# EAGLE library part IC_TXB0108 (library dp_devices)
8-Bit bidirectional voltage level translator Mfr no: TXB0108PWR TXB0108PWR <http://www.digikey.com/product-detail/en/TXB0108PWR/296-21527-2-ND/1305699>
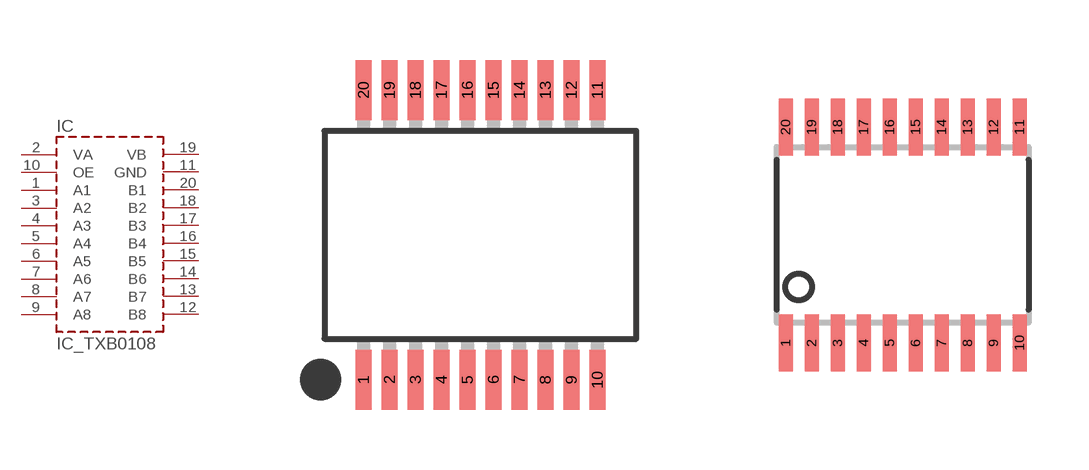
[diagram p63: symbol with the pads of SSOP-20; footprints SSOP-20, TSSOP-20]

Designator prefix IC

## IC_TXB0108PW  [SSOP-20]
1  A1
2  VA
3  A2
4  A3
5  A4
6  A5
7  A6
8  A7
9  A8
10  OE
11  GND
12  B8
13  B7
14  B6
15  B5
16  B4
17  B3
18  B2
19  VB
20  B1

## IC_TXB0108-TSSOP-20  [TSSOP-20]
1  VB
2  A1
3  VA
4  A2
5  A3
6  A4
7  A5
8  A6
9  A7
10  B3
11  B2
12  A8
13  OE
14  GND
15  B8
16  B7
17  B6
18  B5
19  B4
20  B1

## Footprint SSOP-20 (pad centres in mm)
smd 0.4 x 1.5: 1 -2.925,-3.625; 2 -2.275,-3.625; 3 -1.625,-3.625; 4 -0.975,-3.625; 5 -0.325,-3.625; 6 0.325,-3.625; 7 0.975,-3.625; 8 1.625,-3.625; 9 2.275,-3.625; 10 2.925,-3.625; 11 2.925,3.625; 12 2.275,3.625; 13 1.625,3.625; 14 0.975,3.625; 15 0.325,3.625; 16 -0.325,3.625; 17 -0.975,3.625; 18 -1.625,3.625; 19 -2.275,3.625; 20 -2.925,3.625

## Footprint TSSOP-20 (pad centres in mm)
Pad size: 0.35 x 1.43 mm Pad pitch: 0.65 mm Pad lateral pitch: 5.4 mm
smd 0.35 x 1.43: 1 -2.925,-2.7; 2 -2.275,-2.7; 3 -1.625,-2.7; 4 -0.975,-2.7; 5 -0.325,-2.7; 6 0.325,-2.7; 7 0.975,-2.7; 8 1.625,-2.7; 9 2.275,-2.7; 10 2.925,-2.7; 11 2.925,2.7; 12 2.275,2.7; 13 1.625,2.7; 14 0.975,2.7; 15 0.325,2.7; 16 -0.325,2.7; 17 -0.975,2.7; 18 -1.625,2.7; 19 -2.275,2.7; 20 -2.925,2.7